# EAGLE library part MC68040RC (library Custom)
68xxx PROCESSOR
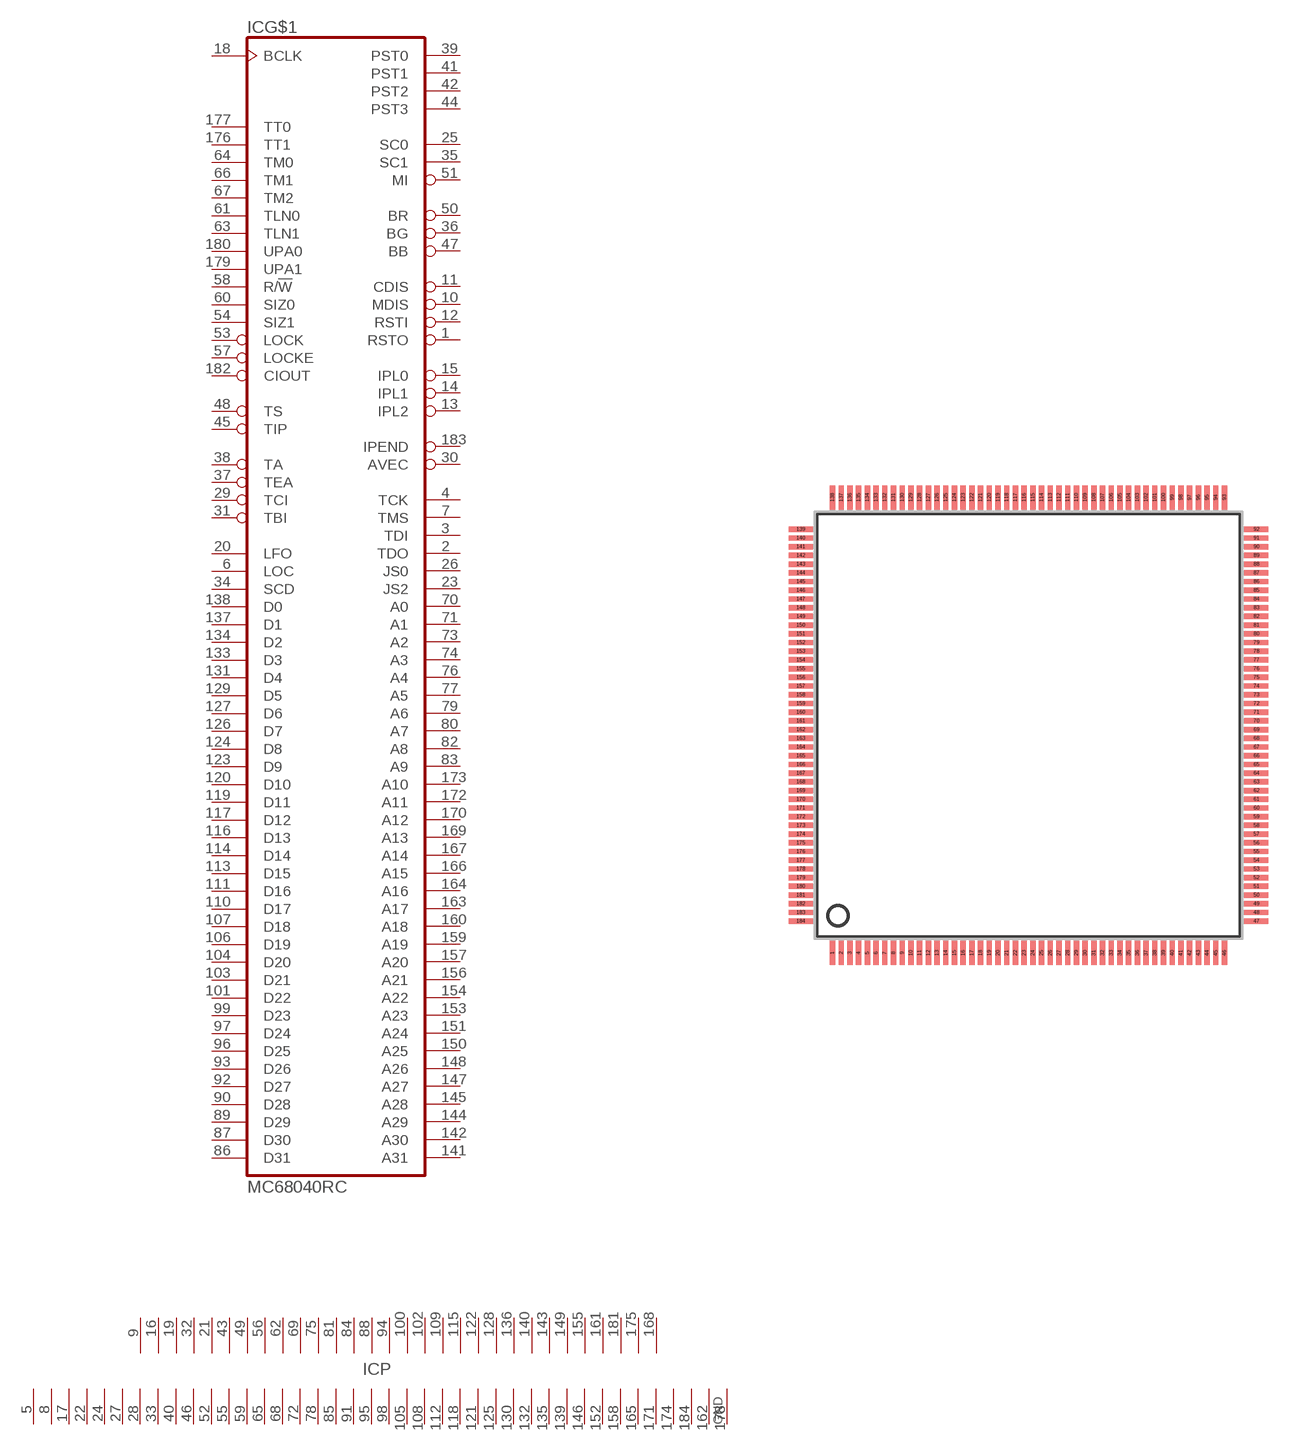
[diagram p4: symbol with the pads of PQFP184; footprint PQFP184]

Designator prefix IC; gates G$1=68040 P=27PW39GN

## MC68040RCPQFP184  [PQFP184]
1  G$1:RSTO  out
2  G$1:TDO  out
3  G$1:TDI  in
4  G$1:TCK  in
5  P:GND  pwr
6  G$1:LOC
7  G$1:TMS  in
8  P:GND  pwr
9  P:+3V3  pwr
10  G$1:MDIS  in
11  G$1:CDIS  in
12  G$1:RSTI  in
13  G$1:IPL2  in
14  G$1:IPL1  in
15  G$1:IPL0  in
16  P:+3V3  pwr
17  P:GND  pwr
18  G$1:BCLK  in
19  P:+3V3  pwr
20  G$1:LFO
21  P:+3V3  pwr
22  P:GND  pwr
23  G$1:JS2
24  P:GND  pwr
25  G$1:SC0  in
26  G$1:JS0
27  P:GND  pwr
28  P:GND  pwr
29  G$1:TCI  in
30  G$1:AVEC  in
31  G$1:TBI  in
32  P:+3V3  pwr
33  P:GND  pwr
34  G$1:SCD
35  G$1:SC1  in
36  G$1:BG  in
37  G$1:TEA  in
38  G$1:TA
39  G$1:PST0  out
40  P:GND  pwr
41  G$1:PST1  out
42  G$1:PST2  out
43  P:+3V3  pwr
44  G$1:PST3  out
45  G$1:TIP  out
46  P:GND  pwr
47  G$1:BB
48  G$1:TS
49  P:+3V3  pwr
50  G$1:BR  out
51  G$1:MI  out
52  P:GND  pwr
53  G$1:LOCK  out
54  G$1:SIZ1
55  P:GND  pwr
56  P:+3V3  pwr
57  G$1:LOCKE  out
58  G$1:R/!W
59  P:GND  pwr
60  G$1:SIZ0
61  G$1:TLN0  out
62  P:+3V3  pwr
63  G$1:TLN1  out
64  G$1:TM0  out
65  P:GND  pwr
66  G$1:TM1  out
67  G$1:TM2  out
68  P:GND  pwr
69  P:+3V3  pwr
70  G$1:A0  out
71  G$1:A1  out
72  P:GND  pwr
73  G$1:A2  out
74  G$1:A3  out
75  P:+3V3  pwr
76  G$1:A4  out
77  G$1:A5  out
78  P:GND  pwr
79  G$1:A6  out
80  G$1:A7  out
81  P:+3V3  pwr
82  G$1:A8  out
83  G$1:A9  out
84  P:+3V3  pwr
85  P:GND  pwr
86  G$1:D31
87  G$1:D30
88  P:+3V3C  pwr
89  G$1:D29
90  G$1:D28
91  P:GND  pwr
92  G$1:D27
93  G$1:D26
94  P:+3V3  pwr
95  P:GND  pwr
96  G$1:D25
97  G$1:D24
98  P:GND  pwr
99  G$1:D23
100  P:+3V3  pwr
101  G$1:D22
102  P:+3V3  pwr
103  G$1:D21
104  G$1:D20
105  P:GND  pwr
106  G$1:D19
107  G$1:D18
108  P:GND  pwr
109  P:+3V3  pwr
110  G$1:D17
111  G$1:D16
112  P:GND  pwr
113  G$1:D15
114  G$1:D14
115  P:+3V3  pwr
116  G$1:D13
117  G$1:D12
118  P:GND  pwr
119  G$1:D11
120  G$1:D10
121  P:GND  pwr
122  P:+3V3  pwr
123  G$1:D9
124  G$1:D8
125  P:GND  pwr
126  G$1:D7
127  G$1:D6
128  P:+3V3  pwr
129  G$1:D5
130  P:GND  pwr
131  G$1:D4
132  P:GND  pwr
133  G$1:D3
134  G$1:D2
135  P:GND  pwr
136  P:+3V3  pwr
137  G$1:D1
138  G$1:D0
139  P:GND  pwr
140  P:+3V3  pwr
141  G$1:A31  out
142  G$1:A30  out
143  P:+3V3  pwr
144  G$1:A29  out
145  G$1:A28  out
146  P:GND  pwr
147  G$1:A27  out
148  G$1:A26  out
149  P:+3V3  pwr
150  G$1:A25  out
151  G$1:A24  out
152  P:GND  pwr
153  G$1:A23  out
154  G$1:A22  out
155  P:+3V3  pwr
156  G$1:A21  out
157  G$1:A20  out
158  P:GND  pwr
159  G$1:A19  out
160  G$1:A18  out
161  P:+3V3  pwr
162  P:GND  pwr
163  G$1:A17  out
164  G$1:A16  out
165  P:GND  pwr
166  G$1:A15  out
167  G$1:A14  out
168  P:+3V3  pwr
169  G$1:A13  out
170  G$1:A12  out
171  P:GND  pwr
172  G$1:A11  out
173  G$1:A10  out
174  P:GND  pwr
175  P:+3V3  pwr
176  G$1:TT1
177  G$1:TT0
178  P:GND  pwr
179  G$1:UPA1  out
180  G$1:UPA0  out
181  P:+3V3  pwr
182  G$1:CIOUT  out
183  G$1:IPEND  out
184  P:GND  pwr

## Footprint PQFP184 (pad centres in mm)
smd 0.4 x 1.8: 1 -14.625,-17; 2 -13.975,-17; 3 -13.325,-17; 4 -12.675,-17; 5 -12.025,-17; 6 -11.375,-17; 7 -10.725,-17; 8 -10.075,-17; 9 -9.425,-17; 10 -8.775,-17; 11 -8.125,-17; 12 -7.475,-17; 13 -6.825,-17; 14 -6.175,-17; 15 -5.525,-17; 16 -4.875,-17; 17 -4.225,-17; 18 -3.575,-17; 19 -2.925,-17; 20 -2.275,-17; 21 -1.625,-17; 22 -0.975,-17; 23 -0.325,-17; 24 0.325,-17; 25 0.975,-17; 26 1.625,-17; 27 2.275,-17; 28 2.925,-17; 29 3.575,-17; 30 4.225,-17; 31 4.875,-17; 32 5.525,-17; 33 6.175,-17; 34 6.825,-17; 35 7.475,-17; 36 8.125,-17; 37 8.775,-17; 38 9.425,-17; 39 10.075,-17; 40 10.725,-17; 41 11.375,-17; 42 12.025,-17; 43 12.675,-17; 44 13.325,-17; 45 13.975,-17; 46 14.625,-17; 93 14.625,17; 94 13.975,17; 95 13.325,17; 96 12.675,17; 97 12.025,17; 98 11.375,17; 99 10.725,17; 100 10.075,17; 101 9.425,17; 102 8.775,17; 103 8.125,17; 104 7.475,17; 105 6.825,17; 106 6.175,17; 107 5.525,17; 108 4.875,17; 109 4.225,17; 110 3.575,17; 111 2.925,17; 112 2.275,17; 113 1.625,17; 114 0.975,17; 115 0.325,17; 116 -0.325,17; 117 -0.975,17; 118 -1.625,17; 119 -2.275,17; 120 -2.925,17; 121 -3.575,17; 122 -4.225,17; 123 -4.875,17; 124 -5.525,17; 125 -6.175,17; 126 -6.825,17; 127 -7.475,17; 128 -8.125,17; 129 -8.775,17; 130 -9.425,17; 131 -10.075,17; 132 -10.725,17; 133 -11.375,17; 134 -12.025,17; 135 -12.675,17; 136 -13.325,17; 137 -13.975,17; 138 -14.625,17
smd 1.8 x 0.4: 47 17,-14.625; 48 17,-13.975; 49 17,-13.325; 50 17,-12.675; 51 17,-12.025; 52 17,-11.375; 53 17,-10.725; 54 17,-10.075; 55 17,-9.425; 56 17,-8.775; 57 17,-8.125; 58 17,-7.475; 59 17,-6.825; 60 17,-6.175; 61 17,-5.525; 62 17,-4.875; 63 17,-4.225; 64 17,-3.575; 65 17,-2.925; 66 17,-2.275; 67 17,-1.625; 68 17,-0.975; 69 17,-0.325; 70 17,0.325; 71 17,0.975; 72 17,1.625; 73 17,2.275; 74 17,2.925; 75 17,3.575; 76 17,4.225; 77 17,4.875; 78 17,5.525; 79 17,6.175; 80 17,6.825; 81 17,7.475; 82 17,8.125; 83 17,8.775; 84 17,9.425; 85 17,10.075; 86 17,10.725; 87 17,11.375; 88 17,12.025; 89 17,12.675; 90 17,13.325; 91 17,13.975; 92 17,14.625; 139 -17,14.625; 140 -17,13.975; 141 -17,13.325; 142 -17,12.675; 143 -17,12.025; 144 -17,11.375; 145 -17,10.725; 146 -17,10.075; 147 -17,9.425; 148 -17,8.775; 149 -17,8.125; 150 -17,7.475; 151 -17,6.825; 152 -17,6.175; 153 -17,5.525; 154 -17,4.875; 155 -17,4.225; 156 -17,3.575; 157 -17,2.925; 158 -17,2.275; 159 -17,1.625; 160 -17,0.975; 161 -17,0.325; 162 -17,-0.325; 163 -17,-0.975; 164 -17,-1.625; 165 -17,-2.275; 166 -17,-2.925; 167 -17,-3.575; 168 -17,-4.225; 169 -17,-4.875; 170 -17,-5.525; 171 -17,-6.175; 172 -17,-6.825; 173 -17,-7.475; 174 -17,-8.125; 175 -17,-8.775; 176 -17,-9.425; 177 -17,-10.075; 178 -17,-10.725; 179 -17,-11.375; 180 -17,-12.025; 181 -17,-12.675; 182 -17,-13.325; 183 -17,-13.975; 184 -17,-14.625